# Altium schematic symbol library Resistor.SchLib: 2 symbols
Pins are listed as number, name and electrical type; pins without a type are passive.

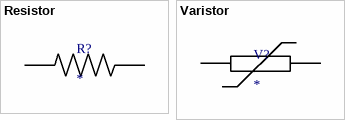
[diagram p0: symbols Resistor to Varistor]

## Resistor
designator R?
pins: 1, 2

## Varistor
designator V?